# EAGLE library part 62102021021 (library Wuerth_Elektronik_eiCan_Pin_&_Socked_Headers_v1.3)
WR-PHD 1.27mm Dual SMT Pin Header H=3.80 mm, 20 Pins
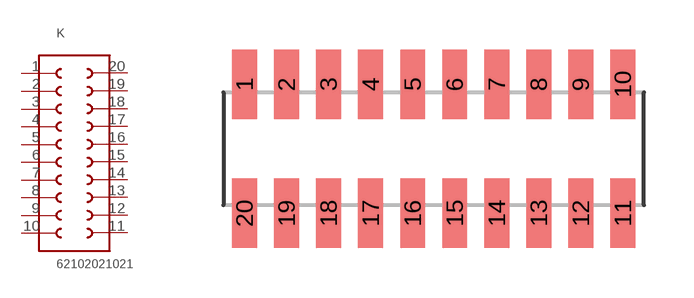
[diagram p331: symbol with the pads of 62102021021; footprint 62102021021]

Designator prefix K

## 62102021021  [62102021021]
1  1  pas
2  2  pas
3  3  pas
4  4  pas
5  5  pas
6  6  pas
7  7  pas
8  8  pas
9  9  pas
10  10  pas
11  11  pas
12  12  pas
13  13  pas
14  14  pas
15  15  pas
16  16  pas
17  17  pas
18  18  pas
19  19  pas
20  20  pas

## Footprint 62102021021 (pad centres in mm)
WR-PHD 1.27mm Dual SMT Pin Header H=3.80 mm, 20 Pins
smd 0.75 x 2.1: 1 -5.715,1.95; 2 -4.445,1.95; 3 -3.175,1.95; 4 -1.905,1.95; 5 -0.635,1.95; 6 0.635,1.95; 7 1.905,1.95; 8 3.175,1.95; 9 4.445,1.95; 10 5.715,1.95; 11 5.715,-1.95; 12 4.445,-1.95; 13 3.175,-1.95; 14 1.905,-1.95; 15 0.635,-1.95; 16 -0.635,-1.95; 17 -1.905,-1.95; 18 -3.175,-1.95; 19 -4.445,-1.95; 20 -5.715,-1.95